# Altium footprint library NES Footprints.PcbLib: 11 footprints
Each footprint in its own frame and in the unit in brackets; x right, y up, seen from the top. Pads: shape width x height; smd on the part's side, far side on the other; paste and mask are expansions set on the pad; w line width, h text height; cw(c..) or ccw(c..) is an arc to the next point about the centre after c.
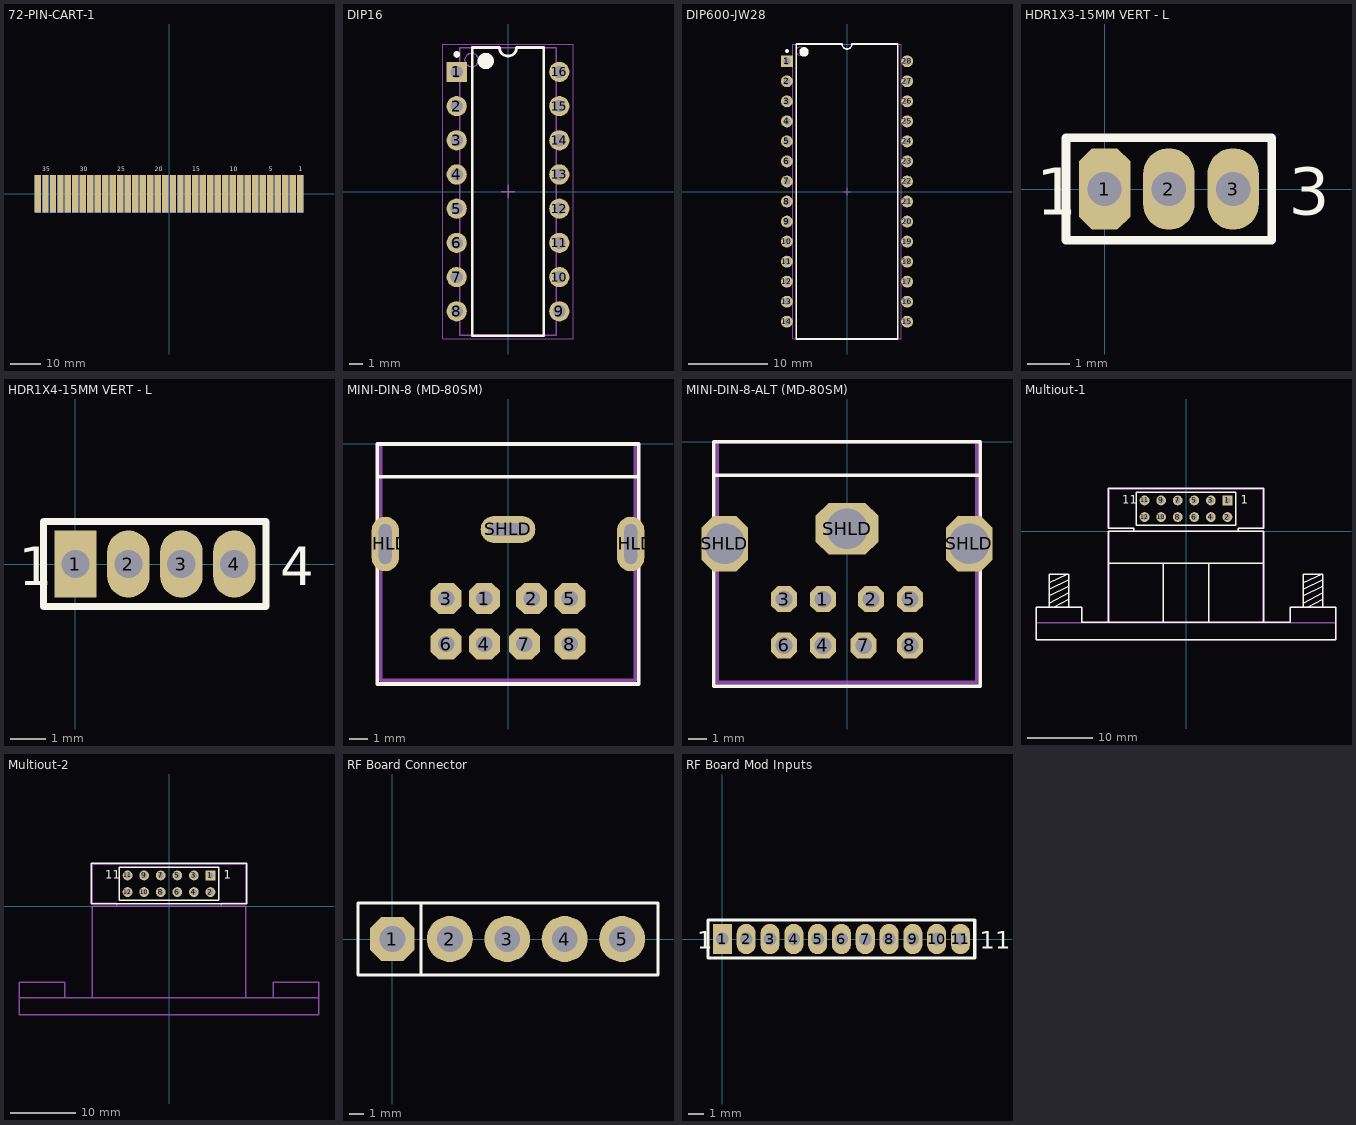
[diagram p0: the footprints below, top view; thin cyan lines are the x and y axes]

## 72-PIN-CART-1 [mm] "72 Pin NES Cartridge Connector"
pads (72):
  rect 2x12.5 smd paste-1 mask-1: 1(43.75,0) 2(41.25,0) 3(38.75,0) 4(36.25,0) 5(33.75,0) 6(31.25,0) 7(28.75,0) 8(26.25,0) 9(23.75,0) 10(21.25,0) 11(18.75,0) 12(16.25,0) 13(13.75,0) 14(11.25,0) 15(8.75,0) 16(6.25,0) 17(3.75,0) 18(1.25,0) 19(-1.25,0) 20(-3.75,0) 21(-6.25,0) 22(-8.75,0) 23(-11.25,0) 24(-13.75,0) 25(-16.25,0) 26(-18.75,0) 27(-21.25,0) 28(-23.75,0) 29(-26.25,0) 30(-28.75,0) 31(-31.25,0) 32(-33.75,0) 33(-36.25,0) 34(-38.75,0) 35(-41.25,0) 36(-43.75,0)
  rect 2x12.5 smd far side paste-1 mask-1: 37(43.75,0) 38(41.25,0) 39(38.75,0) 40(36.25,0) 41(33.75,0) 42(31.25,0) 43(28.75,0) 44(26.25,0) 45(23.75,0) 46(21.25,0) 47(18.75,0) 48(16.25,0) 49(13.75,0) 50(11.25,0) 51(8.75,0) 52(6.25,0) 53(3.75,0) 54(1.25,0) 55(-1.25,0) 56(-3.75,0) 57(-6.25,0) 58(-8.75,0) 59(-11.25,0) 60(-13.75,0) 61(-16.25,0) 62(-18.75,0) 63(-21.25,0) 64(-23.75,0) 65(-26.25,0) 66(-28.75,0) 67(-31.25,0) 68(-33.75,0) 69(-36.25,0) 70(-38.75,0) 71(-41.25,0) 72(-43.75,0)
Top Overlay:
  text "5" at 33.25,7 h2.5
  text "10" at 20.25,7 h2.5
  text "15" at 7.75,7 h2.5
  text "20" at -4.75,7 h2.5
  text "25" at -17.25,7 h2.5
  text "30" at -29.75,7 h2.5
  text "35" at -42.25,7 h2.5
  text "1" at 43.25,7 h2.5
Bottom Overlay:
  text "37" at 44.75,7 h2.5
  text "40" at 37.25,7 h2.5
  text "45" at 24.75,7 h2.5
  text "50" at 12.25,7 h2.5
  text "55" at -0.25,7 h2.5
  text "60" at -12.75,7 h2.5
  text "65" at -25.25,7 h2.5
  text "70" at -37.75,7 h2.5

## DIP16 [mm] "DIP, 16-Leads, Row Spacing 7.62mm, Pitch 2.54mm, Body 20.07x6.73mm"
height 5.08
pads (16):
  rect 1.5x1.5 hole 0.9: 1(-3.81,8.89)
  round 1.5 hole 0.9: 2(-3.81,6.35) 3(-3.81,3.81) 4(-3.81,1.27) 5(-3.81,-1.27) 6(-3.81,-3.81) 7(-3.81,-6.35) 8(-3.81,-8.89) 9(3.81,-8.89) 10(3.81,-6.35) 11(3.81,-3.81) 12(3.81,-1.27) 13(3.81,1.27) 14(3.81,3.81) 15(3.81,6.35) 16(3.81,8.89)
Top Overlay:
  circle w0.6: c-1.65,9.7 r0.3
  circle w0.25: c-3.81,10.19 r0.125
  lines w0.2: -2.65,-10.7 2.65,-10.7 2.65,10.7 0.635,10.7 cw(c0,10.7) -0.635,10.7 -2.65,10.7 -2.65,-10.7
Mechanical 13:
  circle w0.1: c-2.7,9.775 r0.5
  lines w0.1: -3.6,-10.675 3.6,-10.675 3.6,10.675 -3.6,10.675 -3.6,-10.675
Mechanical 15:
  lines w0.05: -4.85,-10.95 4.85,-10.95 4.85,10.95 -4.85,10.95 -4.85,-10.95
  lines w0.1: -0.5,0 0.5,0 ; 0,-0.5 0,0.5
3D body "CircuitWorks-DIP 16 IC.step": height 5.1, standoff -3.3, extent -3.935,-9.9 3.935,10.1

## DIP600-JW28 [mm] "DIP, 28-Leads, Row Spacing 15.24mm, Pitch 2.54mm, Body 37x13.3mm, Window"
height 5.72
pads (28):
  rect 1.5x1.5 hole 0.9: 1(-7.62,16.51)
  round 1.5 hole 0.9: 2(-7.62,13.97) 3(-7.62,11.43) 4(-7.62,8.89) 5(-7.62,6.35) 6(-7.62,3.81) 7(-7.62,1.27) 8(-7.62,-1.27) 9(-7.62,-3.81) 10(-7.62,-6.35) 11(-7.62,-8.89) 12(-7.62,-11.43) 13(-7.62,-13.97) 14(-7.62,-16.51) 15(7.62,-16.51) 16(7.62,-13.97) 17(7.62,-11.43) 18(7.62,-8.89) 19(7.62,-6.35) 20(7.62,-3.81) 21(7.62,-1.27) 22(7.62,1.27) 23(7.62,3.81) 24(7.62,6.35) 25(7.62,8.89) 26(7.62,11.43) 27(7.62,13.97) 28(7.62,16.51)
Top Overlay:
  circle w0.6: c-5.45,17.7 r0.3
  circle w0.25: c-7.62,17.81 r0.125
  lines w0.2: -6.45,-18.7 6.45,-18.7 6.45,18.7 0.635,18.7 cw(c0,18.7) -0.635,18.7 -6.45,18.7 -6.45,-18.7
Mechanical 13:
  circle w0.1: c-5.95,17.798 r0.5
  lines w0.1: -6.85,-18.675 6.85,-18.675 6.85,18.675 -6.85,18.675 -6.85,-18.675
Mechanical 15:
  lines w0.1: -0.5,0 0.5,0 ; 0,-0.5 0,0.5
3D body "CircuitWorks-DIP28.step": height 4.66, standoff -3.28, extent -7.82,-18.005 7.8,18.005

## HDR1X3-15MM VERT - L [mm] "Connector; Header; 3 Position; 1.5mm Pitch;Vertical Mount"
pads (3):
  oct 1.2x1.9 hole 0.8: 1(0,0)
  oval 1.2x1.9 hole 0.8: 2(1.5,0) 3(3,0)
Top Overlay:
  lines w0.2: -0.9,-1.2 3.9,-1.2 3.9,1.2 -0.9,1.2 -0.9,-1.2
  text "3" at 4.3,-0.6 h1.1
  text "1" at -1.6,-0.6 h1.1

## HDR1X4-15MM VERT - L [mm] "Connector; Header; 4 Position; 1.5mm Pitch;Vertical Mount"
pads (4):
  rect 1.2x1.9 hole 0.8: 1(0,0)
  oval 1.2x1.9 hole 0.8: 2(1.5,0) 3(3,0) 4(4.5,0)
Top Overlay:
  lines w0.2: -0.9,-1.2 5.4,-1.2 5.4,1.2 -0.9,1.2 -0.9,-1.2
  text "4" at 5.8,-0.6 h1.1
  text "1" at -1.6,-0.6 h1.1

## MINI-DIN-8 (MD-80SM) [mm] "CUI Inc, Mini Din Connector, Through Hole, Right Angle"
height 12.8
pads (11):
  oct 1.7x1.7 hole 0.9: 1(-1.3,-8.5) 2(1.3,-8.5) 3(-3.4,-8.5) 4(-1.3,-11) 5(3.4,-8.5) 6(-3.4,-11) 7(0.9,-11) 8(3.4,-11)
  oval 1.5x3 hole 0.7 slot 2.2 at 90 deg: SHLD(-6.75,-5.5) SHLD(6.75,-5.5)
  oval 3x1.5 hole 0.7 slot 2.2 at 0 deg: SHLD(0,-4.7)
Top Overlay:
  lines w0.2: -7.2,-1.8 7.2,-1.8 ; -7.2,-13.2 7.2,-13.2 7.2,0 -7.2,0 -7.2,-13.2
Mechanical 13:
  lines w0.2: -7,-13 7,-13 7,0 -7,0 -7,-13
3D body "md-80sm IQI Connector.stp": height 12.8, standoff -3.5, extent -7.17,-13 7.17,0

## MINI-DIN-8-ALT (MD-80SM) [mm] "CUI Inc, Mini Din Connector, Through Hole, Right Angle"
height 12.8
pads (11):
  oct 1.4x1.4 hole 0.9: 1(-1.3,-8.5) 2(1.3,-8.5) 3(-3.4,-8.5) 4(-1.3,-11) 5(3.4,-8.5) 6(-3.4,-11) 7(0.9,-11) 8(3.4,-11)
  oct 2.5x3 hole 2.2: SHLD(-6.6,-5.5) SHLD(6.6,-5.5)
  oct 3.4x2.8 hole 2.2: SHLD(0,-4.7)
Top Overlay:
  lines w0.2: -7.2,-1.8 7.2,-1.8 ; -7.2,-13.2 7.2,-13.2 7.2,0 -7.2,0 -7.2,-13.2
Mechanical 13:
  lines w0.2: -7,-13 7,-13 7,0 -7,0 -7,-13
3D body "md-80sm IQI Connector.stp": height 12.8, standoff -3.5, extent -7.17,-13 7.17,0

## Multiout-1 [mm] "Retrofixes Mutliout Connector, Panel Mount with Through Holes"
height 14.4
pads (12):
  rect 1.5x1.5 hole 0.9 unplated paste+0: 1(6.35,4.74)
  round 1.5 hole 0.9 unplated paste+0: 2(6.35,2.2) 3(3.81,4.74) 4(3.81,2.2) 5(1.27,4.74) 6(1.27,2.2) 7(-1.27,4.74) 8(-1.27,2.2) 9(-3.81,4.74) 10(-3.81,2.2) 11(-6.35,4.74) 12(-6.35,2.2)
Top Overlay:
  lines w0.2: -21,-11.6 -21,-6.6 -18,-6.6 -18,-11.6 ; -21,-11 -18,-9.4 ; -21,-9.9 -18,-8.4 ; -21,-8.9 -18,-7.4 ; -21,-7.9 -18.2,-6.6 ; -20.3,-11.6 -18,-10.4 ; -11.8,-4.9 -3.4,-4.9 ; -3.5,-13.9 -3.5,-4.9 3.5,-4.9 ; 3.5,-13.9 3.5,-4.9 ; 11.9,-4.9 3.5,-4.9 ; 18,-11.6 18,-6.6 21,-6.6 21,-11.6 ; 18,-11 21,-9.4 ; 18,-9.9 21,-8.4 ; 18,-8.9 21,-7.4 ; 18,-7.9 20.8,-6.6 ; 18.7,-11.6 21,-10.4 ; -11.9,-13.9 -16,-13.9 -16,-11.6 -23,-11.6 -23,-16.6 23,-16.6 23,-11.6 16,-11.6 16,-13.9 11.9,-13.9 ; -11.9,-13.9 11.9,-13.9 ; -11.9,-13.9 -11.9,0 -8,0 ; -8,0 0,0 8,0 ; -8,0 -8,0.5 -11.9,0.5 -11.9,0.6 -11.9,6.6 11.9,6.6 11.9,0.6 11.9,0.5 8,0.5 8,0 ; 8,0 11.9,0 11.9,-13.9 ; -7.65,0.94 -7.65,6.04 7.65,6.04 7.65,0.94 -7.65,0.94
  text "11" at -9.75,4.24 h1.27
  text "1" at 8.42,4.24 h1.27
Mechanical 13:
  lines w0.2: -16,-14 -16,-11.6 -23,-11.6 -23,-14 ; -8,0 -8,0.5 -11.75,0.5 -11.75,6.5 0,6.5 11.75,6.5 11.75,0.5 8,0.5 8,0 ; 16,-14 16,-11.6 23,-11.6 23,-14 ; -23,-14 -11.75,-14 ; -23,-14 -23,-16.6 23,-16.6 23,-14 ; -11.75,-14 11.75,-14 ; -11.75,-14 -11.75,0 0,0 11.75,0 11.75,-14 ; 11.75,-14 23,-14
3D body "nessocket.step": height 14.55, standoff 0.05, extent -23.3,-19.29 23.2,0.21

## Multiout-2 [mm] "Retrofixes Mutliout Connector, Panel Mount with Through Holes"
height 14.4
pads (12):
  rect 1.5x1.5 hole 0.9 unplated paste+0: 1(6.35,4.74)
  round 1.5 hole 0.9 unplated paste+0: 2(6.35,2.2) 3(3.81,4.74) 4(3.81,2.2) 5(1.27,4.74) 6(1.27,2.2) 7(-1.27,4.74) 8(-1.27,2.2) 9(-3.81,4.74) 10(-3.81,2.2) 11(-6.35,4.74) 12(-6.35,2.2)
Top Overlay:
  lines w0.2: -11.9,0.4 11.9,0.4 11.9,0.5 11.9,0.6 11.9,6.6 -11.9,6.6 -11.9,0.6 -11.9,0.5 -11.9,0.4 ; -7.65,0.94 -7.65,6.04 7.65,6.04 7.65,0.94 -7.65,0.94
  text "11" at -9.75,4.24 h1.27
  text "1" at 8.42,4.24 h1.27
Mechanical 13:
  lines w0.2: -16,-14 -16,-11.6 -23,-11.6 -23,-14 ; -8,0 -8,0.5 -11.75,0.5 -11.75,6.5 0,6.5 11.75,6.5 11.75,0.5 8,0.5 8,0 ; 16,-14 16,-11.6 23,-11.6 23,-14 ; -23,-14 -11.75,-14 ; -23,-14 -23,-16.6 23,-16.6 23,-14 ; -11.75,-14 11.75,-14 ; -11.75,-14 -11.75,0 0,0 11.75,0 11.75,-14 ; 11.75,-14 23,-14
3D body "nessocket.step": height 14.55, standoff 0.05, extent -23.3,-19.29 23.2,0.21

## RF Board Connector [mm] "connects the motherboard to the RF/power box"
pads (5):
  oct 3.1x3.1 hole 1.8 unplated paste+0: 1(0,0)
  round 3.2 hole 1.8 unplated paste+0: 2(4,0) 3(8,0) 4(12,0) 5(16,0)
Top Overlay:
  lines w0.2: 2,-2.5 2,2.5 ; -2.4,-2.5 18.5,-2.5 18.5,2.5 -2.4,2.5 -2.4,-2.5

## RF Board Mod Inputs [mm] "Video and audio inputs for the RF Board Mod"
pads (11):
  rect 1.2x1.9 hole 0.8: 1(0,0)
  oval 1.2x1.9 hole 0.8: 2(1.5,0) 3(3,0) 4(4.5,0) 5(6,0) 6(7.5,0) 7(9,0) 8(10.5,0) 9(12,0) 10(13.5,0) 11(15,0)
Top Overlay:
  lines w0.2: -0.9,-1.2 15.9,-1.2 15.9,1.2 -0.9,1.2 -0.9,-1.2
  text "1" at -1.6,-0.6 h1.1
  text "11" at 16.2,-0.6 h1.1